# Altium footprint library PAM8403.PcbLib: 1 footprints
Each footprint in its own frame and in the unit in brackets; x right, y up, seen from the top. Pads: shape width x height; smd on the part's side, far side on the other; paste and mask are expansions set on the pad; w line width, h text height; cw(c..) or ccw(c..) is an arc to the next point about the centre after c.
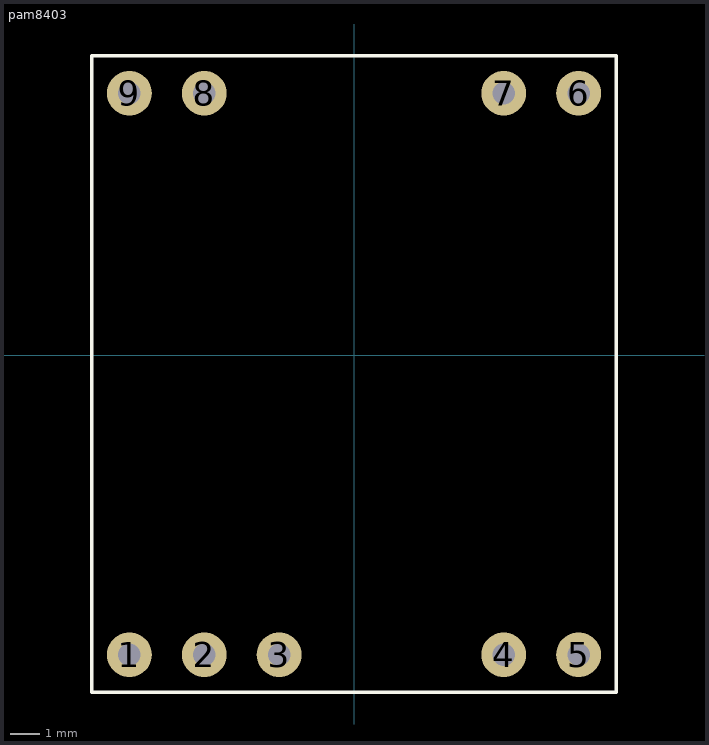
[diagram p0: the footprint, top view; thin cyan lines are the x and y axes]

## pam8403 [mil]
pads (9):
  round 60 hole 30: 1(-300,-400) 2(-200,-400) 3(-100,-400) 4(200,-400) 5(300,-400) 6(300,350) 7(200,350) 8(-200,350) 9(-300,350)
F.SilkS:
  lines w4.72: -350,-450 -350,400 350,400 350,-450 -350,-450
F.Fab:
  text "'.Designator'" at -56.64,-114.11 h39.37